# Altium footprint library ionis.PcbLib: 70 footprints (part 5 of 5)
Each footprint in its own frame and in the unit in brackets; x right, y up, seen from the top. Pads: shape width x height; smd on the part's side, far side on the other; paste and mask are expansions set on the pad; w line width, h text height; cw(c..) or ccw(c..) is an arc to the next point about the centre after c.
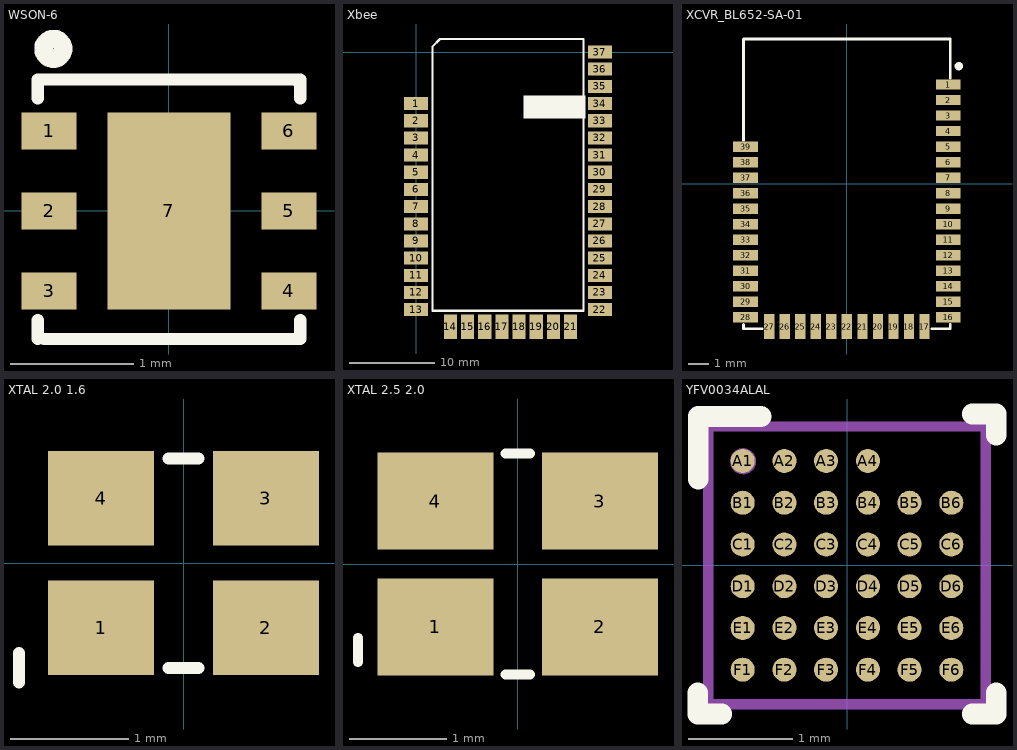
[diagram p4: the footprints below, top view; thin cyan lines are the x and y axes]

## WSON-6 [mm]
pads (7):
  rect 0.45x0.3 smd: 1(-0.975,0.65) 2(-0.975,0) 3(-0.975,-0.65) 4(0.975,-0.65) 5(0.975,0) 6(0.975,0.65)
  rect 1x1.6 smd: 7(0,0)
Top Overlay:
  lines w0.1: -1.067,-1.041 -1.067,-0.889 ; -1.067,0.914 -1.067,1.067 1.067,1.067 1.067,0.914 ; -1.016,-1.041 1.067,-1.041 1.067,-0.889 ; 1.05,1.05 1.05,1.05
  lines w0.15: -1.02,1.314 cw(c-0.94,1.316) -1.019,1.305

## Xbee [mil]
pads (37):
  rect 112x60 smd: 1(0,-237) 2(0,-316) 3(0,-395) 4(0,-474) 5(0,-553) 6(0,-632) 7(0,-711) 8(0,-790) 9(0,-869) 10(0,-948) 11(0,-1027) 12(0,-1106) 13(0,-1185) 22(846,-1185) 23(846,-1106) 24(846,-1027) 25(846,-948) 26(846,-869) 27(846,-790) 28(846,-711) 29(846,-632) 30(846,-553) 31(846,-474) 32(846,-395) 33(846,-316) 34(846,-237) 35(846,-158) 36(846,-79) 37(846,0)
  rect 60x112 smd: 14(158,-1264) 15(237,-1264) 16(316,-1264) 17(395,-1264) 18(474,-1264) 19(553,-1264) 20(632,-1264) 21(711,-1264)
Top Overlay:
  rectangle: 495,-305 780,-200
  lines w10: 75,-1190 75,25 110,60 770,60 770,-1190 75,-1190

## XCVR_BL652-SA-01 [mm]
pads (39):
  rect 1.2x0.5 smd: 1(4.9,4.8) 2(4.9,4.05) 3(4.9,3.3) 4(4.9,2.55) 5(4.9,1.8) 6(4.9,1.05) 7(4.9,0.3) 8(4.9,-0.45) 9(4.9,-1.2) 10(4.9,-1.95) 11(4.9,-2.7) 12(4.9,-3.45) 13(4.9,-4.2) 14(4.9,-4.95) 15(4.9,-5.7) 16(4.9,-6.45) 28(-4.9,-6.45) 29(-4.9,-5.7) 30(-4.9,-4.95) 31(-4.9,-4.2) 32(-4.9,-3.45) 33(-4.9,-2.7) 34(-4.9,-1.95) 35(-4.9,-1.2) 36(-4.9,-0.45) 37(-4.9,0.3) 38(-4.9,1.05) 39(-4.9,1.8)
  rect 0.5x1.2 smd: 17(3.75,-6.9) 18(3,-6.9) 19(2.25,-6.9) 20(1.5,-6.9) 21(0.75,-6.9) 22(0,-6.9) 23(-0.75,-6.9) 24(-1.5,-6.9) 25(-2.25,-6.9) 26(-3,-6.9) 27(-3.75,-6.9)
Top Overlay:
  circle w0.2: c5.409,5.686 r0.1
  lines w0.127: -5,-6.8 -5,-7 -4.1,-7 ; -5,2.1 -5,7 5,7 5,5.1 ; 4.1,-7 5,-7 5,-6.8

## XTAL 2.0 1.6 [mm]
pads (4):
  rect 0.9x0.8 smd: 1(-0.7,-0.55) 2(0.7,-0.55) 3(0.7,0.55) 4(-0.7,0.55)
Top Overlay:
  lines w0.102: -1.397,-1.016 -1.397,-0.762 ; -0.127,-0.889 0.127,-0.889 ; -0.127,0.889 0.127,0.889

## XTAL 2.5 2.0 [mm]
pads (4):
  rect 1.2x1 smd: 1(-0.85,-0.65) 2(0.85,-0.65) 3(0.85,0.65) 4(-0.85,0.65)
Top Overlay:
  lines w0.102: -1.651,-1.016 -1.651,-0.762 ; -0.127,-1.143 0.127,-1.143 ; -0.127,1.143 0.127,1.143

## YFV0034ALAL [mm]
pads (34):
  round 0.23 smd paste-0.102 mask+0.038: A1(-1,1) A2(-0.6,1) A3(-0.2,1) A4(0.2,1) B1(-1,0.6) B2(-0.6,0.6) B3(-0.2,0.6) B4(0.2,0.6) B5(0.6,0.6) B6(1,0.6) C1(-1,0.2) C2(-0.6,0.2) C3(-0.2,0.2) C4(0.2,0.2) C5(0.6,0.2) C6(1,0.2) D1(-1,-0.2) D2(-0.6,-0.2) D3(-0.2,-0.2) D4(0.2,-0.2) D5(0.6,-0.2) D6(1,-0.2) E1(-1,-0.6) E2(-0.6,-0.6) E3(-0.2,-0.6) E4(0.2,-0.6) E5(0.6,-0.6) E6(1,-0.6) F1(-1,-1) F2(-0.6,-1) F3(-0.2,-1) F4(0.2,-1) F5(0.6,-1) F6(1,-1)
Top Overlay:
  lines w0.2: -1.43,-1.225 -1.43,-1.425 -1.2,-1.425 ; -1.425,0.825 -1.425,1.425 ; -1.405,1.425 -0.825,1.425 ; 1.2,-1.425 1.43,-1.425 1.43,-1.225 ; 1.2,1.45 1.43,1.45 1.43,1.25
Top Paste:
  drawing of 306 lines, arcs and shapes, not listed
Mechanical 13:
  circle w0.05: c-0.997,0.997 r0.1
  lines w0.1: -1.331,-1.331 1.331,-1.331 1.331,1.331 -1.331,1.331 -1.331,-1.331
3D body: height 0.25, standoff 0, extent 0,0 0.254,0.254